# Altium integrated library Silicon Labs Clocks and Oscillators.IntLib: 678 symbols (part 20 of 45)
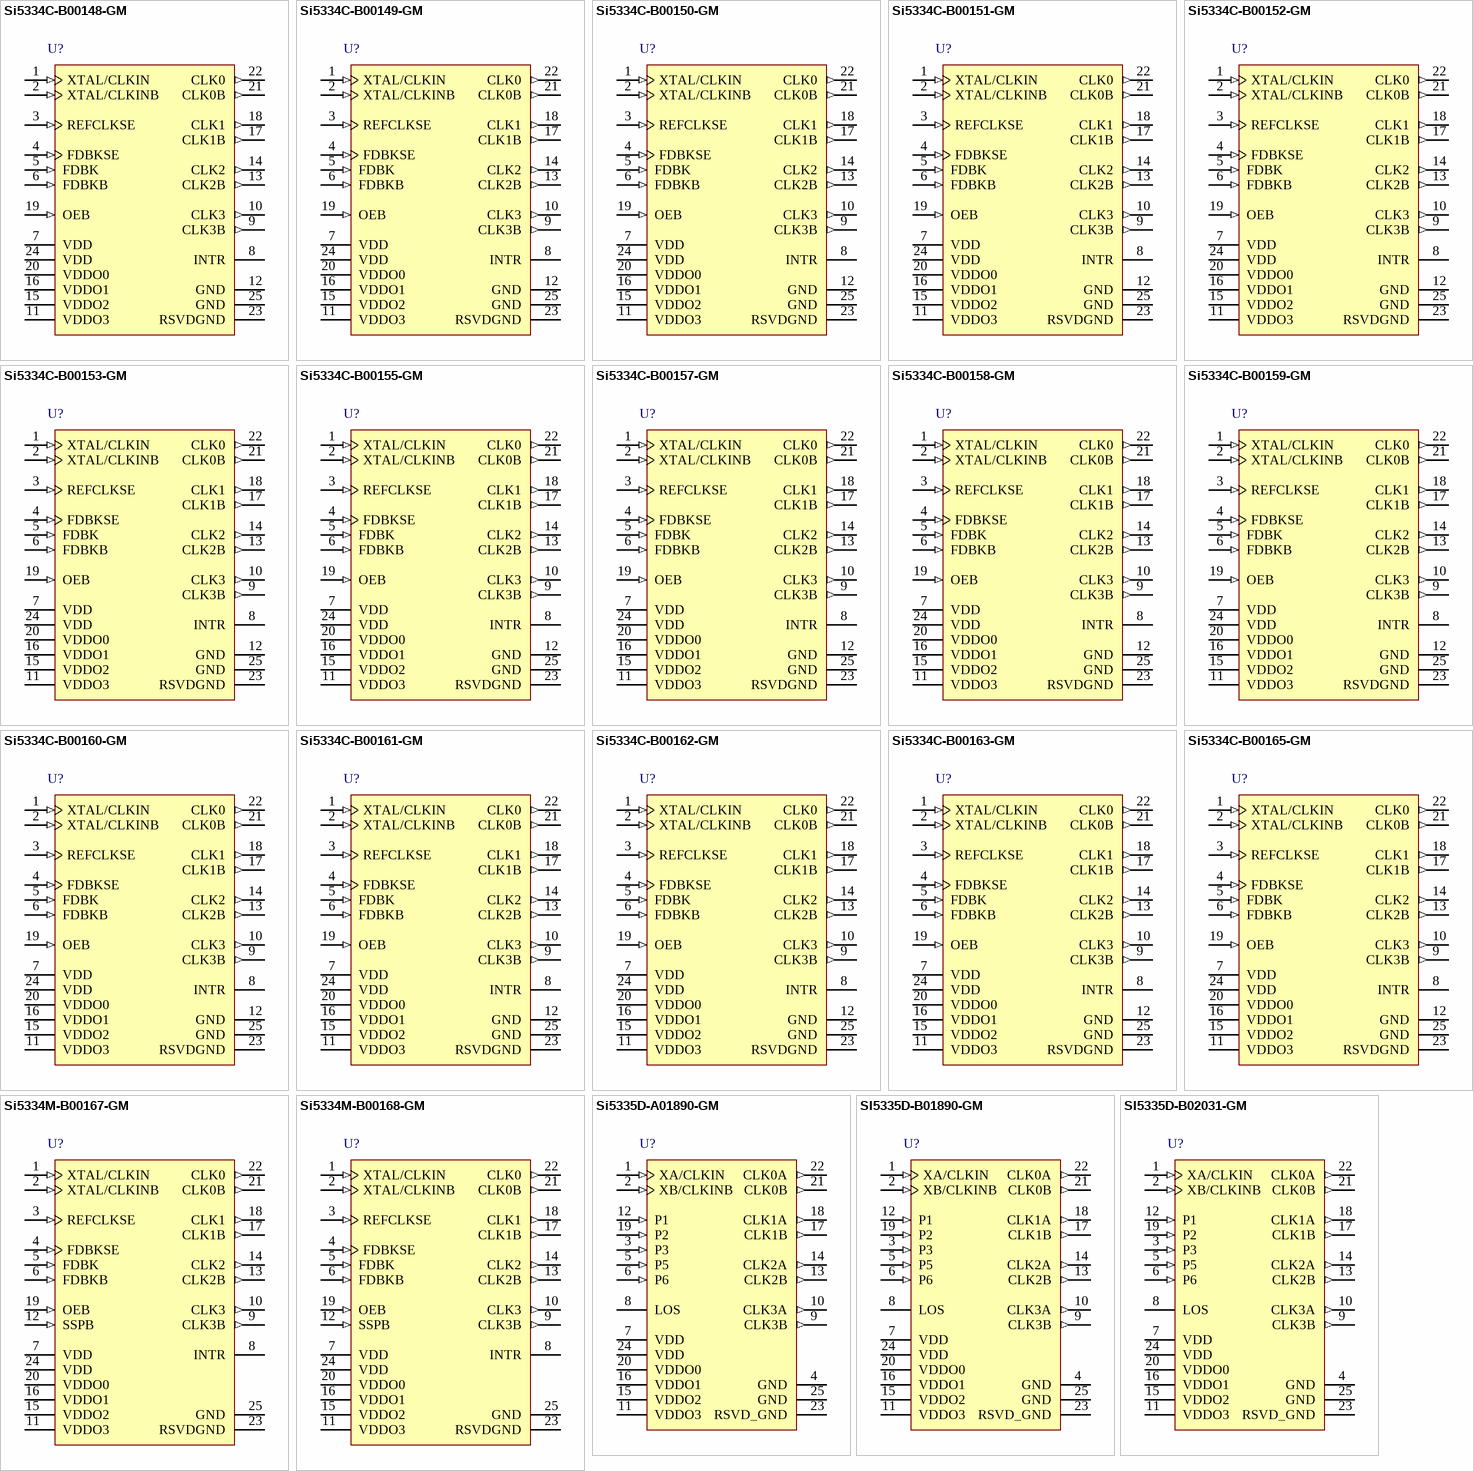
[diagram p63: symbols Si5334C-B00148-GM to SI5335D-B02031-GM]

## Si5334C-B00151-GM
designator U?
Pin-Controlled Any-Frequency, Any-Output Quad Clock Generator, 1.8 / 2.5 / 3.3 V, 0.16 to 200 MHz Output, -40 to 85 degC, 24-pin QFN; Manufacturer: Silicon Labs; PartNumber: Si5334C-B00151-GM; Output Format: LVPECL; LVDS; LVCMOS; HCSL; SSTL; HSTL; Reference Inputs: 1; VDD: 1.8 V; 2.5 V; 3.3 V; Sub-Family: Clock Generators; DatasheetVersion: Rev. 1.1; PackageReference: QFN-24; PackageDescription: 24-Pin Quad-Flat No-Leads Package, Body 4 x 4 mm, Pitch 0.5 mm; Output Frequency (MHz): 0.16 to 200; Mounting Technology: Surface Mount; Code_JEDEC: MO-220; Code_IPC: J-STD-020; ComponentLink1Description: Manufacturer URL; ComponentLink1URL: http://www.silabs.com/; ComponentLink2Description: Datasheet; ComponentLink2URL: http://www.silabs.com/Support%20Documents/TechnicalDocs/Si5334.pdf; ComponentLink3Description: Package Specification; ComponentLink3URL: http://www.silabs.com/Support%20Documents/TechnicalDocs/Si5330.pdf
footprint SLAB-QFN-24-2500x2500TP_N (QFN, 24-Leads, Body 4x4mm, Pitch 0.5mm, Thermal Pad 2.5x2.5mm, IPC Medium Density)
footprint SLAB-QFN-24-2500x2500TP_L (QFN, 24-Leads, Body 4x4mm, Pitch 0.5mm, Thermal Pad 2.5x2.5mm, IPC High Density)
footprint SLAB-QFN-24-2500x2500TP_M (QFN, 24-Leads, Body 4x4mm, Pitch 0.5mm, Thermal Pad 2.5x2.5mm, IPC Low Density)
pins: 1 XTAL/CLKIN (in) "These pins are used as the main differential clock input or as the XTAL input.", 2 XTAL/CLKINB (in) "These pins are used as the main differential clock input or as the XTAL input.", 3 REFCLKSE (in) "High impedance input for single-ended clock signals such as CMOS. The input should be dc-coupled.", 4 FDBKSE (in) "High Impedance input for single-ended clock signals, such as CMOS, when the zero delay mode of operation is required. This input should be dc-coupled.", 5 FDBK (in) "These pins form a differential input for feedback clock signals when a zero delay mode of operation is in effect. Always AC couple into these pins. When not is use leave FDBK unconnected and connect FDBKB to ground.", 6 FDBKB (in) "These pins form a differential input for feedback clock signals when a zero delay mode of operation is in effect. Always AC couple into these pins. When not is use leave FDBK unconnected and connect FDBKB to ground.", 7 VDD (power) "Core Supply Voltage", 8 INTR (oc), 9 CLK3B (out) "Output Clock B for Channel 3", 10 CLK3 (out), 11 VDDO3 (power) "Output Clock Supply Voltage", 12 GND (power) "Ground.", 13 CLK2B (out) "Output Clock B for Channel 2", 14 CLK2 (out), 15 VDDO2 (power) "Output Clock Supply Voltage.", 16 VDDO1 (power) "Output Clock Supply Voltage.", 17 CLK1B (out) "Output Clock B for Channel 1", 18 CLK1 (out), 19 OEB (in) "Output Enable Low", 20 VDDO0 (power) "Output Clock Supply Voltage.", 21 CLK0B (out) "Output Clock B for Channel 0", 22 CLK0 (out), 23 RSVDGND (power) "Ground.", 24 VDD (power) "Core Supply Voltage.", 25 GND (power) "Ground Pad."

## Si5334C-B00152-GM
designator U?
Pin-Controlled Any-Frequency, Any-Output Quad Clock Generator, 1.8 / 2.5 / 3.3 V, 0.16 to 200 MHz Output, -40 to 85 degC, 24-pin QFN; Manufacturer: Silicon Labs; PartNumber: Si5334C-B00152-GM; Output Format: LVPECL; LVDS; LVCMOS; HCSL; SSTL; HSTL; Reference Inputs: 1; VDD: 1.8 V; 2.5 V; 3.3 V; Sub-Family: Clock Generators; DatasheetVersion: Rev. 1.1; PackageReference: QFN-24; PackageDescription: 24-Pin Quad-Flat No-Leads Package, Body 4 x 4 mm, Pitch 0.5 mm; Output Frequency (MHz): 0.16 to 200; Mounting Technology: Surface Mount; Code_JEDEC: MO-220; Code_IPC: J-STD-020; ComponentLink1Description: Manufacturer URL; ComponentLink1URL: http://www.silabs.com/; ComponentLink2Description: Datasheet; ComponentLink2URL: http://www.silabs.com/Support%20Documents/TechnicalDocs/Si5334.pdf; ComponentLink3Description: Package Specification; ComponentLink3URL: http://www.silabs.com/Support%20Documents/TechnicalDocs/Si5330.pdf
footprint SLAB-QFN-24-2500x2500TP_N (QFN, 24-Leads, Body 4x4mm, Pitch 0.5mm, Thermal Pad 2.5x2.5mm, IPC Medium Density)
footprint SLAB-QFN-24-2500x2500TP_L (QFN, 24-Leads, Body 4x4mm, Pitch 0.5mm, Thermal Pad 2.5x2.5mm, IPC High Density)
footprint SLAB-QFN-24-2500x2500TP_M (QFN, 24-Leads, Body 4x4mm, Pitch 0.5mm, Thermal Pad 2.5x2.5mm, IPC Low Density)
pins: 1 XTAL/CLKIN (in) "These pins are used as the main differential clock input or as the XTAL input.", 2 XTAL/CLKINB (in) "These pins are used as the main differential clock input or as the XTAL input.", 3 REFCLKSE (in) "High impedance input for single-ended clock signals such as CMOS. The input should be dc-coupled.", 4 FDBKSE (in) "High Impedance input for single-ended clock signals, such as CMOS, when the zero delay mode of operation is required. This input should be dc-coupled.", 5 FDBK (in) "These pins form a differential input for feedback clock signals when a zero delay mode of operation is in effect. Always AC couple into these pins. When not is use leave FDBK unconnected and connect FDBKB to ground.", 6 FDBKB (in) "These pins form a differential input for feedback clock signals when a zero delay mode of operation is in effect. Always AC couple into these pins. When not is use leave FDBK unconnected and connect FDBKB to ground.", 7 VDD (power) "Core Supply Voltage", 8 INTR (oc), 9 CLK3B (out) "Output Clock B for Channel 3", 10 CLK3 (out), 11 VDDO3 (power) "Output Clock Supply Voltage", 12 GND (power) "Ground.", 13 CLK2B (out) "Output Clock B for Channel 2", 14 CLK2 (out), 15 VDDO2 (power) "Output Clock Supply Voltage.", 16 VDDO1 (power) "Output Clock Supply Voltage.", 17 CLK1B (out) "Output Clock B for Channel 1", 18 CLK1 (out), 19 OEB (in) "Output Enable Low", 20 VDDO0 (power) "Output Clock Supply Voltage.", 21 CLK0B (out) "Output Clock B for Channel 0", 22 CLK0 (out), 23 RSVDGND (power) "Ground.", 24 VDD (power) "Core Supply Voltage.", 25 GND (power) "Ground Pad."

## Si5334C-B00153-GM
designator U?
Pin-Controlled Any-Frequency, Any-Output Quad Clock Generator, 1.8 / 2.5 / 3.3 V, 0.16 to 200 MHz Output, -40 to 85 degC, 24-pin QFN; Manufacturer: Silicon Labs; PartNumber: Si5334C-B00153-GM; Output Format: LVPECL; LVDS; LVCMOS; HCSL; SSTL; HSTL; Reference Inputs: 1; VDD: 1.8 V; 2.5 V; 3.3 V; Sub-Family: Clock Generators; DatasheetVersion: Rev. 1.1; PackageReference: QFN-24; PackageDescription: 24-Pin Quad-Flat No-Leads Package, Body 4 x 4 mm, Pitch 0.5 mm; Output Frequency (MHz): 0.16 to 200; Mounting Technology: Surface Mount; Code_JEDEC: MO-220; Code_IPC: J-STD-020; ComponentLink1Description: Manufacturer URL; ComponentLink1URL: http://www.silabs.com/; ComponentLink2Description: Datasheet; ComponentLink2URL: http://www.silabs.com/Support%20Documents/TechnicalDocs/Si5334.pdf; ComponentLink3Description: Package Specification; ComponentLink3URL: http://www.silabs.com/Support%20Documents/TechnicalDocs/Si5330.pdf
footprint SLAB-QFN-24-2500x2500TP_N (QFN, 24-Leads, Body 4x4mm, Pitch 0.5mm, Thermal Pad 2.5x2.5mm, IPC Medium Density)
footprint SLAB-QFN-24-2500x2500TP_L (QFN, 24-Leads, Body 4x4mm, Pitch 0.5mm, Thermal Pad 2.5x2.5mm, IPC High Density)
footprint SLAB-QFN-24-2500x2500TP_M (QFN, 24-Leads, Body 4x4mm, Pitch 0.5mm, Thermal Pad 2.5x2.5mm, IPC Low Density)
pins: 1 XTAL/CLKIN (in) "These pins are used as the main differential clock input or as the XTAL input.", 2 XTAL/CLKINB (in) "These pins are used as the main differential clock input or as the XTAL input.", 3 REFCLKSE (in) "High impedance input for single-ended clock signals such as CMOS. The input should be dc-coupled.", 4 FDBKSE (in) "High Impedance input for single-ended clock signals, such as CMOS, when the zero delay mode of operation is required. This input should be dc-coupled.", 5 FDBK (in) "These pins form a differential input for feedback clock signals when a zero delay mode of operation is in effect. Always AC couple into these pins. When not is use leave FDBK unconnected and connect FDBKB to ground.", 6 FDBKB (in) "These pins form a differential input for feedback clock signals when a zero delay mode of operation is in effect. Always AC couple into these pins. When not is use leave FDBK unconnected and connect FDBKB to ground.", 7 VDD (power) "Core Supply Voltage", 8 INTR (oc), 9 CLK3B (out) "Output Clock B for Channel 3", 10 CLK3 (out), 11 VDDO3 (power) "Output Clock Supply Voltage", 12 GND (power) "Ground.", 13 CLK2B (out) "Output Clock B for Channel 2", 14 CLK2 (out), 15 VDDO2 (power) "Output Clock Supply Voltage.", 16 VDDO1 (power) "Output Clock Supply Voltage.", 17 CLK1B (out) "Output Clock B for Channel 1", 18 CLK1 (out), 19 OEB (in) "Output Enable Low", 20 VDDO0 (power) "Output Clock Supply Voltage.", 21 CLK0B (out) "Output Clock B for Channel 0", 22 CLK0 (out), 23 RSVDGND (power) "Ground.", 24 VDD (power) "Core Supply Voltage.", 25 GND (power) "Ground Pad."

## Si5334C-B00155-GM
designator U?
Pin-Controlled Any-Frequency, Any-Output Quad Clock Generator, 1.8 / 2.5 / 3.3 V, 0.16 to 200 MHz Output, -40 to 85 degC, 24-pin QFN; Manufacturer: Silicon Labs; PartNumber: Si5334C-B00155-GM; Output Format: LVPECL; LVDS; LVCMOS; HCSL; SSTL; HSTL; Reference Inputs: 1; VDD: 1.8 V; 2.5 V; 3.3 V; Sub-Family: Clock Generators; DatasheetVersion: Rev. 1.1; PackageReference: QFN-24; PackageDescription: 24-Pin Quad-Flat No-Leads Package, Body 4 x 4 mm, Pitch 0.5 mm; Output Frequency (MHz): 0.16 to 200; Mounting Technology: Surface Mount; Code_JEDEC: MO-220; Code_IPC: J-STD-020; ComponentLink1Description: Manufacturer URL; ComponentLink1URL: http://www.silabs.com/; ComponentLink2Description: Datasheet; ComponentLink2URL: http://www.silabs.com/Support%20Documents/TechnicalDocs/Si5334.pdf; ComponentLink3Description: Package Specification; ComponentLink3URL: http://www.silabs.com/Support%20Documents/TechnicalDocs/Si5330.pdf
footprint SLAB-QFN-24-2500x2500TP_N (QFN, 24-Leads, Body 4x4mm, Pitch 0.5mm, Thermal Pad 2.5x2.5mm, IPC Medium Density)
footprint SLAB-QFN-24-2500x2500TP_L (QFN, 24-Leads, Body 4x4mm, Pitch 0.5mm, Thermal Pad 2.5x2.5mm, IPC High Density)
footprint SLAB-QFN-24-2500x2500TP_M (QFN, 24-Leads, Body 4x4mm, Pitch 0.5mm, Thermal Pad 2.5x2.5mm, IPC Low Density)
pins: 1 XTAL/CLKIN (in) "These pins are used as the main differential clock input or as the XTAL input.", 2 XTAL/CLKINB (in) "These pins are used as the main differential clock input or as the XTAL input.", 3 REFCLKSE (in) "High impedance input for single-ended clock signals such as CMOS. The input should be dc-coupled.", 4 FDBKSE (in) "High Impedance input for single-ended clock signals, such as CMOS, when the zero delay mode of operation is required. This input should be dc-coupled.", 5 FDBK (in) "These pins form a differential input for feedback clock signals when a zero delay mode of operation is in effect. Always AC couple into these pins. When not is use leave FDBK unconnected and connect FDBKB to ground.", 6 FDBKB (in) "These pins form a differential input for feedback clock signals when a zero delay mode of operation is in effect. Always AC couple into these pins. When not is use leave FDBK unconnected and connect FDBKB to ground.", 7 VDD (power) "Core Supply Voltage", 8 INTR (oc), 9 CLK3B (out) "Output Clock B for Channel 3", 10 CLK3 (out), 11 VDDO3 (power) "Output Clock Supply Voltage", 12 GND (power) "Ground.", 13 CLK2B (out) "Output Clock B for Channel 2", 14 CLK2 (out), 15 VDDO2 (power) "Output Clock Supply Voltage.", 16 VDDO1 (power) "Output Clock Supply Voltage.", 17 CLK1B (out) "Output Clock B for Channel 1", 18 CLK1 (out), 19 OEB (in) "Output Enable Low", 20 VDDO0 (power) "Output Clock Supply Voltage.", 21 CLK0B (out) "Output Clock B for Channel 0", 22 CLK0 (out), 23 RSVDGND (power) "Ground.", 24 VDD (power) "Core Supply Voltage.", 25 GND (power) "Ground Pad."

## Si5334C-B00157-GM
designator U?
Pin-Controlled Any-Frequency, Any-Output Quad Clock Generator, 1.8 / 2.5 / 3.3 V, 0.16 to 200 MHz Output, -40 to 85 degC, 24-pin QFN; Manufacturer: Silicon Labs; PartNumber: Si5334C-B00157-GM; Output Format: LVPECL; LVDS; LVCMOS; HCSL; SSTL; HSTL; Reference Inputs: 1; VDD: 1.8 V; 2.5 V; 3.3 V; Sub-Family: Clock Generators; DatasheetVersion: Rev. 1.1; PackageReference: QFN-24; PackageDescription: 24-Pin Quad-Flat No-Leads Package, Body 4 x 4 mm, Pitch 0.5 mm; Output Frequency (MHz): 0.16 to 200; Mounting Technology: Surface Mount; Code_JEDEC: MO-220; Code_IPC: J-STD-020; ComponentLink1Description: Manufacturer URL; ComponentLink1URL: http://www.silabs.com/; ComponentLink2Description: Datasheet; ComponentLink2URL: http://www.silabs.com/Support%20Documents/TechnicalDocs/Si5334.pdf; ComponentLink3Description: Package Specification; ComponentLink3URL: http://www.silabs.com/Support%20Documents/TechnicalDocs/Si5330.pdf
footprint SLAB-QFN-24-2500x2500TP_N (QFN, 24-Leads, Body 4x4mm, Pitch 0.5mm, Thermal Pad 2.5x2.5mm, IPC Medium Density)
footprint SLAB-QFN-24-2500x2500TP_L (QFN, 24-Leads, Body 4x4mm, Pitch 0.5mm, Thermal Pad 2.5x2.5mm, IPC High Density)
footprint SLAB-QFN-24-2500x2500TP_M (QFN, 24-Leads, Body 4x4mm, Pitch 0.5mm, Thermal Pad 2.5x2.5mm, IPC Low Density)
pins: 1 XTAL/CLKIN (in) "These pins are used as the main differential clock input or as the XTAL input.", 2 XTAL/CLKINB (in) "These pins are used as the main differential clock input or as the XTAL input.", 3 REFCLKSE (in) "High impedance input for single-ended clock signals such as CMOS. The input should be dc-coupled.", 4 FDBKSE (in) "High Impedance input for single-ended clock signals, such as CMOS, when the zero delay mode of operation is required. This input should be dc-coupled.", 5 FDBK (in) "These pins form a differential input for feedback clock signals when a zero delay mode of operation is in effect. Always AC couple into these pins. When not is use leave FDBK unconnected and connect FDBKB to ground.", 6 FDBKB (in) "These pins form a differential input for feedback clock signals when a zero delay mode of operation is in effect. Always AC couple into these pins. When not is use leave FDBK unconnected and connect FDBKB to ground.", 7 VDD (power) "Core Supply Voltage", 8 INTR (oc), 9 CLK3B (out) "Output Clock B for Channel 3", 10 CLK3 (out), 11 VDDO3 (power) "Output Clock Supply Voltage", 12 GND (power) "Ground.", 13 CLK2B (out) "Output Clock B for Channel 2", 14 CLK2 (out), 15 VDDO2 (power) "Output Clock Supply Voltage.", 16 VDDO1 (power) "Output Clock Supply Voltage.", 17 CLK1B (out) "Output Clock B for Channel 1", 18 CLK1 (out), 19 OEB (in) "Output Enable Low", 20 VDDO0 (power) "Output Clock Supply Voltage.", 21 CLK0B (out) "Output Clock B for Channel 0", 22 CLK0 (out), 23 RSVDGND (power) "Ground.", 24 VDD (power) "Core Supply Voltage.", 25 GND (power) "Ground Pad."

## Si5334C-B00158-GM
designator U?
Pin-Controlled Any-Frequency, Any-Output Quad Clock Generator, 1.8 / 2.5 / 3.3 V, 0.16 to 200 MHz Output, -40 to 85 degC, 24-pin QFN; Manufacturer: Silicon Labs; PartNumber: Si5334C-B00158-GM; Output Format: LVPECL; LVDS; LVCMOS; HCSL; SSTL; HSTL; Reference Inputs: 1; VDD: 1.8 V; 2.5 V; 3.3 V; Sub-Family: Clock Generators; DatasheetVersion: Rev. 1.1; PackageReference: QFN-24; PackageDescription: 24-Pin Quad-Flat No-Leads Package, Body 4 x 4 mm, Pitch 0.5 mm; Output Frequency (MHz): 0.16 to 200; Mounting Technology: Surface Mount; Code_JEDEC: MO-220; Code_IPC: J-STD-020; ComponentLink1Description: Manufacturer URL; ComponentLink1URL: http://www.silabs.com/; ComponentLink2Description: Datasheet; ComponentLink2URL: http://www.silabs.com/Support%20Documents/TechnicalDocs/Si5334.pdf; ComponentLink3Description: Package Specification; ComponentLink3URL: http://www.silabs.com/Support%20Documents/TechnicalDocs/Si5330.pdf
footprint SLAB-QFN-24-2500x2500TP_N (QFN, 24-Leads, Body 4x4mm, Pitch 0.5mm, Thermal Pad 2.5x2.5mm, IPC Medium Density)
footprint SLAB-QFN-24-2500x2500TP_L (QFN, 24-Leads, Body 4x4mm, Pitch 0.5mm, Thermal Pad 2.5x2.5mm, IPC High Density)
footprint SLAB-QFN-24-2500x2500TP_M (QFN, 24-Leads, Body 4x4mm, Pitch 0.5mm, Thermal Pad 2.5x2.5mm, IPC Low Density)
pins: 1 XTAL/CLKIN (in) "These pins are used as the main differential clock input or as the XTAL input.", 2 XTAL/CLKINB (in) "These pins are used as the main differential clock input or as the XTAL input.", 3 REFCLKSE (in) "High impedance input for single-ended clock signals such as CMOS. The input should be dc-coupled.", 4 FDBKSE (in) "High Impedance input for single-ended clock signals, such as CMOS, when the zero delay mode of operation is required. This input should be dc-coupled.", 5 FDBK (in) "These pins form a differential input for feedback clock signals when a zero delay mode of operation is in effect. Always AC couple into these pins. When not is use leave FDBK unconnected and connect FDBKB to ground.", 6 FDBKB (in) "These pins form a differential input for feedback clock signals when a zero delay mode of operation is in effect. Always AC couple into these pins. When not is use leave FDBK unconnected and connect FDBKB to ground.", 7 VDD (power) "Core Supply Voltage", 8 INTR (oc), 9 CLK3B (out) "Output Clock B for Channel 3", 10 CLK3 (out), 11 VDDO3 (power) "Output Clock Supply Voltage", 12 GND (power) "Ground.", 13 CLK2B (out) "Output Clock B for Channel 2", 14 CLK2 (out), 15 VDDO2 (power) "Output Clock Supply Voltage.", 16 VDDO1 (power) "Output Clock Supply Voltage.", 17 CLK1B (out) "Output Clock B for Channel 1", 18 CLK1 (out), 19 OEB (in) "Output Enable Low", 20 VDDO0 (power) "Output Clock Supply Voltage.", 21 CLK0B (out) "Output Clock B for Channel 0", 22 CLK0 (out), 23 RSVDGND (power) "Ground.", 24 VDD (power) "Core Supply Voltage.", 25 GND (power) "Ground Pad."

## Si5334C-B00159-GM
designator U?
Pin-Controlled Any-Frequency, Any-Output Quad Clock Generator, 1.8 / 2.5 / 3.3 V, 0.16 to 200 MHz Output, -40 to 85 degC, 24-pin QFN; Manufacturer: Silicon Labs; PartNumber: Si5334C-B00159-GM; Output Format: LVPECL; LVDS; LVCMOS; HCSL; SSTL; HSTL; Reference Inputs: 1; VDD: 1.8 V; 2.5 V; 3.3 V; Sub-Family: Clock Generators; DatasheetVersion: Rev. 1.1; PackageReference: QFN-24; PackageDescription: 24-Pin Quad-Flat No-Leads Package, Body 4 x 4 mm, Pitch 0.5 mm; Output Frequency (MHz): 0.16 to 200; Mounting Technology: Surface Mount; Code_JEDEC: MO-220; Code_IPC: J-STD-020; ComponentLink1Description: Manufacturer URL; ComponentLink1URL: http://www.silabs.com/; ComponentLink2Description: Datasheet; ComponentLink2URL: http://www.silabs.com/Support%20Documents/TechnicalDocs/Si5334.pdf; ComponentLink3Description: Package Specification; ComponentLink3URL: http://www.silabs.com/Support%20Documents/TechnicalDocs/Si5330.pdf
footprint SLAB-QFN-24-2500x2500TP_N (QFN, 24-Leads, Body 4x4mm, Pitch 0.5mm, Thermal Pad 2.5x2.5mm, IPC Medium Density)
footprint SLAB-QFN-24-2500x2500TP_L (QFN, 24-Leads, Body 4x4mm, Pitch 0.5mm, Thermal Pad 2.5x2.5mm, IPC High Density)
footprint SLAB-QFN-24-2500x2500TP_M (QFN, 24-Leads, Body 4x4mm, Pitch 0.5mm, Thermal Pad 2.5x2.5mm, IPC Low Density)
pins: 1 XTAL/CLKIN (in) "These pins are used as the main differential clock input or as the XTAL input.", 2 XTAL/CLKINB (in) "These pins are used as the main differential clock input or as the XTAL input.", 3 REFCLKSE (in) "High impedance input for single-ended clock signals such as CMOS. The input should be dc-coupled.", 4 FDBKSE (in) "High Impedance input for single-ended clock signals, such as CMOS, when the zero delay mode of operation is required. This input should be dc-coupled.", 5 FDBK (in) "These pins form a differential input for feedback clock signals when a zero delay mode of operation is in effect. Always AC couple into these pins. When not is use leave FDBK unconnected and connect FDBKB to ground.", 6 FDBKB (in) "These pins form a differential input for feedback clock signals when a zero delay mode of operation is in effect. Always AC couple into these pins. When not is use leave FDBK unconnected and connect FDBKB to ground.", 7 VDD (power) "Core Supply Voltage", 8 INTR (oc), 9 CLK3B (out) "Output Clock B for Channel 3", 10 CLK3 (out), 11 VDDO3 (power) "Output Clock Supply Voltage", 12 GND (power) "Ground.", 13 CLK2B (out) "Output Clock B for Channel 2", 14 CLK2 (out), 15 VDDO2 (power) "Output Clock Supply Voltage.", 16 VDDO1 (power) "Output Clock Supply Voltage.", 17 CLK1B (out) "Output Clock B for Channel 1", 18 CLK1 (out), 19 OEB (in) "Output Enable Low", 20 VDDO0 (power) "Output Clock Supply Voltage.", 21 CLK0B (out) "Output Clock B for Channel 0", 22 CLK0 (out), 23 RSVDGND (power) "Ground.", 24 VDD (power) "Core Supply Voltage.", 25 GND (power) "Ground Pad."

## Si5334C-B00160-GM
designator U?
Pin-Controlled Any-Frequency, Any-Output Quad Clock Generator, 1.8 / 2.5 / 3.3 V, 0.16 to 200 MHz Output, -40 to 85 degC, 24-pin QFN; Manufacturer: Silicon Labs; PartNumber: Si5334C-B00160-GM; Output Format: LVPECL; LVDS; LVCMOS; HCSL; SSTL; HSTL; Reference Inputs: 1; VDD: 1.8 V; 2.5 V; 3.3 V; Sub-Family: Clock Generators; DatasheetVersion: Rev. 1.1; PackageReference: QFN-24; PackageDescription: 24-Pin Quad-Flat No-Leads Package, Body 4 x 4 mm, Pitch 0.5 mm; Output Frequency (MHz): 0.16 to 200; Mounting Technology: Surface Mount; Code_JEDEC: MO-220; Code_IPC: J-STD-020; ComponentLink1Description: Manufacturer URL; ComponentLink1URL: http://www.silabs.com/; ComponentLink2Description: Datasheet; ComponentLink2URL: http://www.silabs.com/Support%20Documents/TechnicalDocs/Si5334.pdf; ComponentLink3Description: Package Specification; ComponentLink3URL: http://www.silabs.com/Support%20Documents/TechnicalDocs/Si5330.pdf
footprint SLAB-QFN-24-2500x2500TP_N (QFN, 24-Leads, Body 4x4mm, Pitch 0.5mm, Thermal Pad 2.5x2.5mm, IPC Medium Density)
footprint SLAB-QFN-24-2500x2500TP_L (QFN, 24-Leads, Body 4x4mm, Pitch 0.5mm, Thermal Pad 2.5x2.5mm, IPC High Density)
footprint SLAB-QFN-24-2500x2500TP_M (QFN, 24-Leads, Body 4x4mm, Pitch 0.5mm, Thermal Pad 2.5x2.5mm, IPC Low Density)
pins: 1 XTAL/CLKIN (in) "These pins are used as the main differential clock input or as the XTAL input.", 2 XTAL/CLKINB (in) "These pins are used as the main differential clock input or as the XTAL input.", 3 REFCLKSE (in) "High impedance input for single-ended clock signals such as CMOS. The input should be dc-coupled.", 4 FDBKSE (in) "High Impedance input for single-ended clock signals, such as CMOS, when the zero delay mode of operation is required. This input should be dc-coupled.", 5 FDBK (in) "These pins form a differential input for feedback clock signals when a zero delay mode of operation is in effect. Always AC couple into these pins. When not is use leave FDBK unconnected and connect FDBKB to ground.", 6 FDBKB (in) "These pins form a differential input for feedback clock signals when a zero delay mode of operation is in effect. Always AC couple into these pins. When not is use leave FDBK unconnected and connect FDBKB to ground.", 7 VDD (power) "Core Supply Voltage", 8 INTR (oc), 9 CLK3B (out) "Output Clock B for Channel 3", 10 CLK3 (out), 11 VDDO3 (power) "Output Clock Supply Voltage", 12 GND (power) "Ground.", 13 CLK2B (out) "Output Clock B for Channel 2", 14 CLK2 (out), 15 VDDO2 (power) "Output Clock Supply Voltage.", 16 VDDO1 (power) "Output Clock Supply Voltage.", 17 CLK1B (out) "Output Clock B for Channel 1", 18 CLK1 (out), 19 OEB (in) "Output Enable Low", 20 VDDO0 (power) "Output Clock Supply Voltage.", 21 CLK0B (out) "Output Clock B for Channel 0", 22 CLK0 (out), 23 RSVDGND (power) "Ground.", 24 VDD (power) "Core Supply Voltage.", 25 GND (power) "Ground Pad."

## Si5334C-B00161-GM
designator U?
Pin-Controlled Any-Frequency, Any-Output Quad Clock Generator, 1.8 / 2.5 / 3.3 V, 0.16 to 200 MHz Output, -40 to 85 degC, 24-pin QFN; Manufacturer: Silicon Labs; PartNumber: Si5334C-B00161-GM; Output Format: LVPECL; LVDS; LVCMOS; HCSL; SSTL; HSTL; Reference Inputs: 1; VDD: 1.8 V; 2.5 V; 3.3 V; Sub-Family: Clock Generators; DatasheetVersion: Rev. 1.1; PackageReference: QFN-24; PackageDescription: 24-Pin Quad-Flat No-Leads Package, Body 4 x 4 mm, Pitch 0.5 mm; Output Frequency (MHz): 0.16 to 200; Mounting Technology: Surface Mount; Code_JEDEC: MO-220; Code_IPC: J-STD-020; ComponentLink1Description: Manufacturer URL; ComponentLink1URL: http://www.silabs.com/; ComponentLink2Description: Datasheet; ComponentLink2URL: http://www.silabs.com/Support%20Documents/TechnicalDocs/Si5334.pdf; ComponentLink3Description: Package Specification; ComponentLink3URL: http://www.silabs.com/Support%20Documents/TechnicalDocs/Si5330.pdf
footprint SLAB-QFN-24-2500x2500TP_N (QFN, 24-Leads, Body 4x4mm, Pitch 0.5mm, Thermal Pad 2.5x2.5mm, IPC Medium Density)
footprint SLAB-QFN-24-2500x2500TP_L (QFN, 24-Leads, Body 4x4mm, Pitch 0.5mm, Thermal Pad 2.5x2.5mm, IPC High Density)
footprint SLAB-QFN-24-2500x2500TP_M (QFN, 24-Leads, Body 4x4mm, Pitch 0.5mm, Thermal Pad 2.5x2.5mm, IPC Low Density)
pins: 1 XTAL/CLKIN (in) "These pins are used as the main differential clock input or as the XTAL input.", 2 XTAL/CLKINB (in) "These pins are used as the main differential clock input or as the XTAL input.", 3 REFCLKSE (in) "High impedance input for single-ended clock signals such as CMOS. The input should be dc-coupled.", 4 FDBKSE (in) "High Impedance input for single-ended clock signals, such as CMOS, when the zero delay mode of operation is required. This input should be dc-coupled.", 5 FDBK (in) "These pins form a differential input for feedback clock signals when a zero delay mode of operation is in effect. Always AC couple into these pins. When not is use leave FDBK unconnected and connect FDBKB to ground.", 6 FDBKB (in) "These pins form a differential input for feedback clock signals when a zero delay mode of operation is in effect. Always AC couple into these pins. When not is use leave FDBK unconnected and connect FDBKB to ground.", 7 VDD (power) "Core Supply Voltage", 8 INTR (oc), 9 CLK3B (out) "Output Clock B for Channel 3", 10 CLK3 (out), 11 VDDO3 (power) "Output Clock Supply Voltage", 12 GND (power) "Ground.", 13 CLK2B (out) "Output Clock B for Channel 2", 14 CLK2 (out), 15 VDDO2 (power) "Output Clock Supply Voltage.", 16 VDDO1 (power) "Output Clock Supply Voltage.", 17 CLK1B (out) "Output Clock B for Channel 1", 18 CLK1 (out), 19 OEB (in) "Output Enable Low", 20 VDDO0 (power) "Output Clock Supply Voltage.", 21 CLK0B (out) "Output Clock B for Channel 0", 22 CLK0 (out), 23 RSVDGND (power) "Ground.", 24 VDD (power) "Core Supply Voltage.", 25 GND (power) "Ground Pad."

## Si5334C-B00162-GM
designator U?
Pin-Controlled Any-Frequency, Any-Output Quad Clock Generator, 1.8 / 2.5 / 3.3 V, 0.16 to 200 MHz Output, -40 to 85 degC, 24-pin QFN; Manufacturer: Silicon Labs; PartNumber: Si5334C-B00162-GM; Output Format: LVPECL; LVDS; LVCMOS; HCSL; SSTL; HSTL; Reference Inputs: 1; VDD: 1.8 V; 2.5 V; 3.3 V; Sub-Family: Clock Generators; DatasheetVersion: Rev. 1.1; PackageReference: QFN-24; PackageDescription: 24-Pin Quad-Flat No-Leads Package, Body 4 x 4 mm, Pitch 0.5 mm; Output Frequency (MHz): 0.16 to 200; Mounting Technology: Surface Mount; Code_JEDEC: MO-220; Code_IPC: J-STD-020; ComponentLink1Description: Manufacturer URL; ComponentLink1URL: http://www.silabs.com/; ComponentLink2Description: Datasheet; ComponentLink2URL: http://www.silabs.com/Support%20Documents/TechnicalDocs/Si5334.pdf; ComponentLink3Description: Package Specification; ComponentLink3URL: http://www.silabs.com/Support%20Documents/TechnicalDocs/Si5330.pdf
footprint SLAB-QFN-24-2500x2500TP_N (QFN, 24-Leads, Body 4x4mm, Pitch 0.5mm, Thermal Pad 2.5x2.5mm, IPC Medium Density)
footprint SLAB-QFN-24-2500x2500TP_L (QFN, 24-Leads, Body 4x4mm, Pitch 0.5mm, Thermal Pad 2.5x2.5mm, IPC High Density)
footprint SLAB-QFN-24-2500x2500TP_M (QFN, 24-Leads, Body 4x4mm, Pitch 0.5mm, Thermal Pad 2.5x2.5mm, IPC Low Density)
pins: 1 XTAL/CLKIN (in) "These pins are used as the main differential clock input or as the XTAL input.", 2 XTAL/CLKINB (in) "These pins are used as the main differential clock input or as the XTAL input.", 3 REFCLKSE (in) "High impedance input for single-ended clock signals such as CMOS. The input should be dc-coupled.", 4 FDBKSE (in) "High Impedance input for single-ended clock signals, such as CMOS, when the zero delay mode of operation is required. This input should be dc-coupled.", 5 FDBK (in) "These pins form a differential input for feedback clock signals when a zero delay mode of operation is in effect. Always AC couple into these pins. When not is use leave FDBK unconnected and connect FDBKB to ground.", 6 FDBKB (in) "These pins form a differential input for feedback clock signals when a zero delay mode of operation is in effect. Always AC couple into these pins. When not is use leave FDBK unconnected and connect FDBKB to ground.", 7 VDD (power) "Core Supply Voltage", 8 INTR (oc), 9 CLK3B (out) "Output Clock B for Channel 3", 10 CLK3 (out), 11 VDDO3 (power) "Output Clock Supply Voltage", 12 GND (power) "Ground.", 13 CLK2B (out) "Output Clock B for Channel 2", 14 CLK2 (out), 15 VDDO2 (power) "Output Clock Supply Voltage.", 16 VDDO1 (power) "Output Clock Supply Voltage.", 17 CLK1B (out) "Output Clock B for Channel 1", 18 CLK1 (out), 19 OEB (in) "Output Enable Low", 20 VDDO0 (power) "Output Clock Supply Voltage.", 21 CLK0B (out) "Output Clock B for Channel 0", 22 CLK0 (out), 23 RSVDGND (power) "Ground.", 24 VDD (power) "Core Supply Voltage.", 25 GND (power) "Ground Pad."

## Si5334C-B00163-GM
designator U?
Pin-Controlled Any-Frequency, Any-Output Quad Clock Generator, 1.8 / 2.5 / 3.3 V, 0.16 to 200 MHz Output, -40 to 85 degC, 24-pin QFN; Manufacturer: Silicon Labs; PartNumber: Si5334C-B00163-GM; Output Format: LVPECL; LVDS; LVCMOS; HCSL; SSTL; HSTL; Reference Inputs: 1; VDD: 1.8 V; 2.5 V; 3.3 V; Sub-Family: Clock Generators; DatasheetVersion: Rev. 1.1; PackageReference: QFN-24; PackageDescription: 24-Pin Quad-Flat No-Leads Package, Body 4 x 4 mm, Pitch 0.5 mm; Output Frequency (MHz): 0.16 to 200; Mounting Technology: Surface Mount; Code_JEDEC: MO-220; Code_IPC: J-STD-020; ComponentLink1Description: Manufacturer URL; ComponentLink1URL: http://www.silabs.com/; ComponentLink2Description: Datasheet; ComponentLink2URL: http://www.silabs.com/Support%20Documents/TechnicalDocs/Si5334.pdf; ComponentLink3Description: Package Specification; ComponentLink3URL: http://www.silabs.com/Support%20Documents/TechnicalDocs/Si5330.pdf
footprint SLAB-QFN-24-2500x2500TP_N (QFN, 24-Leads, Body 4x4mm, Pitch 0.5mm, Thermal Pad 2.5x2.5mm, IPC Medium Density)
footprint SLAB-QFN-24-2500x2500TP_L (QFN, 24-Leads, Body 4x4mm, Pitch 0.5mm, Thermal Pad 2.5x2.5mm, IPC High Density)
footprint SLAB-QFN-24-2500x2500TP_M (QFN, 24-Leads, Body 4x4mm, Pitch 0.5mm, Thermal Pad 2.5x2.5mm, IPC Low Density)
pins: 1 XTAL/CLKIN (in) "These pins are used as the main differential clock input or as the XTAL input.", 2 XTAL/CLKINB (in) "These pins are used as the main differential clock input or as the XTAL input.", 3 REFCLKSE (in) "High impedance input for single-ended clock signals such as CMOS. The input should be dc-coupled.", 4 FDBKSE (in) "High Impedance input for single-ended clock signals, such as CMOS, when the zero delay mode of operation is required. This input should be dc-coupled.", 5 FDBK (in) "These pins form a differential input for feedback clock signals when a zero delay mode of operation is in effect. Always AC couple into these pins. When not is use leave FDBK unconnected and connect FDBKB to ground.", 6 FDBKB (in) "These pins form a differential input for feedback clock signals when a zero delay mode of operation is in effect. Always AC couple into these pins. When not is use leave FDBK unconnected and connect FDBKB to ground.", 7 VDD (power) "Core Supply Voltage", 8 INTR (oc), 9 CLK3B (out) "Output Clock B for Channel 3", 10 CLK3 (out), 11 VDDO3 (power) "Output Clock Supply Voltage", 12 GND (power) "Ground.", 13 CLK2B (out) "Output Clock B for Channel 2", 14 CLK2 (out), 15 VDDO2 (power) "Output Clock Supply Voltage.", 16 VDDO1 (power) "Output Clock Supply Voltage.", 17 CLK1B (out) "Output Clock B for Channel 1", 18 CLK1 (out), 19 OEB (in) "Output Enable Low", 20 VDDO0 (power) "Output Clock Supply Voltage.", 21 CLK0B (out) "Output Clock B for Channel 0", 22 CLK0 (out), 23 RSVDGND (power) "Ground.", 24 VDD (power) "Core Supply Voltage.", 25 GND (power) "Ground Pad."

## Si5334C-B00165-GM
designator U?
Pin-Controlled Any-Frequency, Any-Output Quad Clock Generator, 1.8 / 2.5 / 3.3 V, 0.16 to 200 MHz Output, -40 to 85 degC, 24-pin QFN; Manufacturer: Silicon Labs; PartNumber: Si5334C-B00165-GM; Output Format: LVPECL; LVDS; LVCMOS; HCSL; SSTL; HSTL; Reference Inputs: 1; VDD: 1.8 V; 2.5 V; 3.3 V; Sub-Family: Clock Generators; DatasheetVersion: Rev. 1.1; PackageReference: QFN-24; PackageDescription: 24-Pin Quad-Flat No-Leads Package, Body 4 x 4 mm, Pitch 0.5 mm; Output Frequency (MHz): 0.16 to 200; Mounting Technology: Surface Mount; Code_JEDEC: MO-220; Code_IPC: J-STD-020; ComponentLink1Description: Manufacturer URL; ComponentLink1URL: http://www.silabs.com/; ComponentLink2Description: Datasheet; ComponentLink2URL: http://www.silabs.com/Support%20Documents/TechnicalDocs/Si5334.pdf; ComponentLink3Description: Package Specification; ComponentLink3URL: http://www.silabs.com/Support%20Documents/TechnicalDocs/Si5330.pdf
footprint SLAB-QFN-24-2500x2500TP_N (QFN, 24-Leads, Body 4x4mm, Pitch 0.5mm, Thermal Pad 2.5x2.5mm, IPC Medium Density)
footprint SLAB-QFN-24-2500x2500TP_L (QFN, 24-Leads, Body 4x4mm, Pitch 0.5mm, Thermal Pad 2.5x2.5mm, IPC High Density)
footprint SLAB-QFN-24-2500x2500TP_M (QFN, 24-Leads, Body 4x4mm, Pitch 0.5mm, Thermal Pad 2.5x2.5mm, IPC Low Density)
pins: 1 XTAL/CLKIN (in) "These pins are used as the main differential clock input or as the XTAL input.", 2 XTAL/CLKINB (in) "These pins are used as the main differential clock input or as the XTAL input.", 3 REFCLKSE (in) "High impedance input for single-ended clock signals such as CMOS. The input should be dc-coupled.", 4 FDBKSE (in) "High Impedance input for single-ended clock signals, such as CMOS, when the zero delay mode of operation is required. This input should be dc-coupled.", 5 FDBK (in) "These pins form a differential input for feedback clock signals when a zero delay mode of operation is in effect. Always AC couple into these pins. When not is use leave FDBK unconnected and connect FDBKB to ground.", 6 FDBKB (in) "These pins form a differential input for feedback clock signals when a zero delay mode of operation is in effect. Always AC couple into these pins. When not is use leave FDBK unconnected and connect FDBKB to ground.", 7 VDD (power) "Core Supply Voltage", 8 INTR (oc), 9 CLK3B (out) "Output Clock B for Channel 3", 10 CLK3 (out), 11 VDDO3 (power) "Output Clock Supply Voltage", 12 GND (power) "Ground.", 13 CLK2B (out) "Output Clock B for Channel 2", 14 CLK2 (out), 15 VDDO2 (power) "Output Clock Supply Voltage.", 16 VDDO1 (power) "Output Clock Supply Voltage.", 17 CLK1B (out) "Output Clock B for Channel 1", 18 CLK1 (out), 19 OEB (in) "Output Enable Low", 20 VDDO0 (power) "Output Clock Supply Voltage.", 21 CLK0B (out) "Output Clock B for Channel 0", 22 CLK0 (out), 23 RSVDGND (power) "Ground.", 24 VDD (power) "Core Supply Voltage.", 25 GND (power) "Ground Pad."

## Si5334M-B00167-GM
designator U?
Pin-Controlled Any-Frequency, Any-Output Quad Clock Generator, 1.8 / 2.5 / 3.3 V, 0.16 to 200 MHz Output, -40 to 85 degC, 24-pin QFN; Manufacturer: Silicon Labs; PartNumber: Si5334M-B00167-GM; Output Format: LVPECL; LVDS; LVCMOS; HCSL; SSTL; HSTL; Reference Inputs: 1; VDD: 1.8 V; 2.5 V; 3.3 V; Sub-Family: Clock Generators; DatasheetVersion: Rev. 1.1; PackageReference: QFN-24; PackageDescription: 24-Pin Quad-Flat No-Leads Package, Body 4 x 4 mm, Pitch 0.5 mm; Output Frequency (MHz): 0.16 to 200; Mounting Technology: Surface Mount; Code_JEDEC: MO-220; Code_IPC: J-STD-020; ComponentLink1Description: Manufacturer URL; ComponentLink1URL: http://www.silabs.com/; ComponentLink2Description: Datasheet; ComponentLink2URL: http://www.silabs.com/Support%20Documents/TechnicalDocs/Si5334.pdf; ComponentLink3Description: Package Specification; ComponentLink3URL: http://www.silabs.com/Support%20Documents/TechnicalDocs/Si5330.pdf
footprint SLAB-QFN-24-2500x2500TP_N (QFN, 24-Leads, Body 4x4mm, Pitch 0.5mm, Thermal Pad 2.5x2.5mm, IPC Medium Density)
footprint SLAB-QFN-24-2500x2500TP_L (QFN, 24-Leads, Body 4x4mm, Pitch 0.5mm, Thermal Pad 2.5x2.5mm, IPC High Density)
footprint SLAB-QFN-24-2500x2500TP_M (QFN, 24-Leads, Body 4x4mm, Pitch 0.5mm, Thermal Pad 2.5x2.5mm, IPC Low Density)
pins: 1 XTAL/CLKIN (in) "CLKIN/CLKINB. These pins are used as the main differential clock input or as the XTAL input. Clock inputs to these pins must be ac-coupled. A crystal should be directly connected to pins 1,2 with the shortest traces possible.(See Datasheet)", 2 XTAL/CLKINB (in) "CLKIN/CLKINB. These pins are used as the main differential clock input or as the XTAL input. Clock inputs to these pins must be ac-coupled. A crystal should be directly connected to pins 1,2 with the shortest traces possible.(See Datasheet)", 3 REFCLKSE (in) "REFCLKSE. High impedance input for single-ended clock signals such as CMOS. The input should be dc-coupled.", 4 FDBKSE (in) "FDBKSE. High Impedance input for single-ended clock signals, such as CMOS, when the zero delay mode of operation is required. This input should be dc-coupled.", 5 FDBK (in) "FDBK/FDBKB. These pins form a differential input for feedback clock signals when a zero delay mode of operation is in effect. Always AC couple into these pins. When not is use leave FDBK unconnected and connect FDBKB to (See Datasheet)", 6 FDBKB (in) "FDBK/FDBKB. These pins form a differential input for feedback clock signals when a zero delay mode of operation is in effect. Always AC couple into these pins. When not is use leave FDBK unconnected and connect FDBKB to (See Datasheet)", 7 VDD (power) "Core Supply Voltage. The device operates from a 1.8, 2.5, or 3.3 V supply. A 0.1 uF bypass capacitor should be located very close to this pin.", 8 INTR (oc), 9 CLK3B (out) "Output Clock B for Channel 3. May be a single-ended output or half of a differential output with CLK3A being the other differential half. If unused leave this pin floating.", 10 CLK3 (out) "Output Clock A for Channel 3. May be a single-ended output or half of a differential output with CLK3B being the other differential half. If unused leave this pin floating.", 11 VDDO3 (power) "Output Clock Supply Voltage. Supply voltage (3.3, 2.5, 1.8, or 1.5 V) for CLK3A,B. A 0.1 uF capacitor must be located very close to this pin. If CLK3 is not used, this pin must be tied to VDD (pin 7, 24).", 12 SSPB (in) "SSPB. When low, Spread Spectrum is enabled on every output clock that is programmed for Spread Spectrum. This option is available on the Si5334K/L/M. On an Si5334 that does not contain the spread spectrum functionality, this (See Datasheet)", 13 CLK2B (out) "Output Clock B for Channel 2. May be a single-ended output or half of a differential output with CLK2A being the other differential half. If unused leave this pin floating.", 14 CLK2 (out) "Output Clock A for Channel 2. May be a single-ended output or half of a differential output with CLK2B being the other differential half. If unused leave this pin floating.", 15 VDDO2 (power) "Output Clock Supply Voltage. Supply voltage (3.3, 2.5, 1.8, or 1.5 V) for CLK2A,B. A 0.1 uF capacitor must be located very close to this pin. If CLK2 is not used, this pin must be tied to VDD (pin 7, 24).", 16 VDDO1 (power) "Output Clock Supply Voltage. Supply voltage (3.3, 2.5, 1.8, or 1.5 V) for CLK1A,B. A 0.1 uF capacitor must be located very close to this pin. If CLK1 is not used, this pin must be tied to VDD (pin 7, 24).", 17 CLK1B (out) "Output Clock B for Channel 1. May be a single-ended output or half of a differential output with CLK1A being the other differential half. If unused, this pin must be tied to VDD pin 24. If unused leave this pin floating.", 18 CLK1 (out) "Output Clock A for Channel 1. May be a single-ended output or half of a differential output with CLK1B being the other differential half. If unused leave this pin floating.", 19 OEB (in) "Output Enable Low When low, all the factory-programmed outputs are enabled. When high all factory programmed outputs are forced to a logic low.", 20 VDDO0 (power) "Output Clock Supply Voltage. Supply voltage (3.3, 2.5, 1.8, or 1.5 V) for CLK0A,B. A 0.1 uF capacitor must be located very close to this pin. If CLK0 is not used, this pin must be tied to VDD (pin 7, 24).", 21 CLK0B (out) "Output Clock B for Channel 0. May be a single-ended output or half of a differential output with CLK0A being the other differential half. If unused leave this pin floating.", 22 CLK0 (out) "Output Clock A for Channel 0. May be a single-ended output or half of a differential output with CLK0B being the other differential half. If unused leave this pin floating.", 23 RSVDGND (power) "Ground. Must be connected to system ground.", 24 VDD (power) "Core Supply Voltage. The device operates from a 1.8, 2.5, or 3.3 V supply. A 0.1 uF bypass capacitor should be located very close to this pin.", 25 GND (power) "Ground Pad. This is the large pad in the center of the package. Device specifications cannot be guaranteed unless the ground pad is properly connected to a ground plane on the PCB. See section 6.0 for the PCB pad sizes and (See Datasheet)"

## Si5334M-B00168-GM
designator U?
Pin-Controlled Any-Frequency, Any-Output Quad Clock Generator, 1.8 / 2.5 / 3.3 V, 0.16 to 200 MHz Output, -40 to 85 degC, 24-pin QFN; Manufacturer: Silicon Labs; PartNumber: Si5334M-B00168-GM; Output Format: LVPECL; LVDS; LVCMOS; HCSL; SSTL; HSTL; Reference Inputs: 1; VDD: 1.8 V; 2.5 V; 3.3 V; Sub-Family: Clock Generators; DatasheetVersion: Rev. 1.1; PackageReference: QFN-24; PackageDescription: 24-Pin Quad-Flat No-Leads Package, Body 4 x 4 mm, Pitch 0.5 mm; Output Frequency (MHz): 0.16 to 200; Mounting Technology: Surface Mount; Code_JEDEC: MO-220; Code_IPC: J-STD-020; ComponentLink1Description: Manufacturer URL; ComponentLink1URL: http://www.silabs.com/; ComponentLink2Description: Datasheet; ComponentLink2URL: http://www.silabs.com/Support%20Documents/TechnicalDocs/Si5334.pdf; ComponentLink3Description: Package Specification; ComponentLink3URL: http://www.silabs.com/Support%20Documents/TechnicalDocs/Si5330.pdf
footprint SLAB-QFN-24-2500x2500TP_N (QFN, 24-Leads, Body 4x4mm, Pitch 0.5mm, Thermal Pad 2.5x2.5mm, IPC Medium Density)
footprint SLAB-QFN-24-2500x2500TP_L (QFN, 24-Leads, Body 4x4mm, Pitch 0.5mm, Thermal Pad 2.5x2.5mm, IPC High Density)
footprint SLAB-QFN-24-2500x2500TP_M (QFN, 24-Leads, Body 4x4mm, Pitch 0.5mm, Thermal Pad 2.5x2.5mm, IPC Low Density)
pins: 1 XTAL/CLKIN (in) "CLKIN/CLKINB. These pins are used as the main differential clock input or as the XTAL input. Clock inputs to these pins must be ac-coupled. A crystal should be directly connected to pins 1,2 with the shortest traces possible.(See Datasheet)", 2 XTAL/CLKINB (in) "CLKIN/CLKINB. These pins are used as the main differential clock input or as the XTAL input. Clock inputs to these pins must be ac-coupled. A crystal should be directly connected to pins 1,2 with the shortest traces possible.(See Datasheet)", 3 REFCLKSE (in) "REFCLKSE. High impedance input for single-ended clock signals such as CMOS. The input should be dc-coupled.", 4 FDBKSE (in) "FDBKSE. High Impedance input for single-ended clock signals, such as CMOS, when the zero delay mode of operation is required. This input should be dc-coupled.", 5 FDBK (in) "FDBK/FDBKB. These pins form a differential input for feedback clock signals when a zero delay mode of operation is in effect. Always AC couple into these pins. When not is use leave FDBK unconnected and connect FDBKB to (See Datasheet)", 6 FDBKB (in) "FDBK/FDBKB. These pins form a differential input for feedback clock signals when a zero delay mode of operation is in effect. Always AC couple into these pins. When not is use leave FDBK unconnected and connect FDBKB to (See Datasheet)", 7 VDD (power) "Core Supply Voltage. The device operates from a 1.8, 2.5, or 3.3 V supply. A 0.1 uF bypass capacitor should be located very close to this pin.", 8 INTR (oc), 9 CLK3B (out) "Output Clock B for Channel 3. May be a single-ended output or half of a differential output with CLK3A being the other differential half. If unused leave this pin floating.", 10 CLK3 (out) "Output Clock A for Channel 3. May be a single-ended output or half of a differential output with CLK3B being the other differential half. If unused leave this pin floating.", 11 VDDO3 (power) "Output Clock Supply Voltage. Supply voltage (3.3, 2.5, 1.8, or 1.5 V) for CLK3A,B. A 0.1 uF capacitor must be located very close to this pin. If CLK3 is not used, this pin must be tied to VDD (pin 7, 24).", 12 SSPB (in) "SSPB. When low, Spread Spectrum is enabled on every output clock that is programmed for Spread Spectrum. This option is available on the Si5334K/L/M. On an Si5334 that does not contain the spread spectrum functionality, this (See Datasheet)", 13 CLK2B (out) "Output Clock B for Channel 2. May be a single-ended output or half of a differential output with CLK2A being the other differential half. If unused leave this pin floating.", 14 CLK2 (out) "Output Clock A for Channel 2. May be a single-ended output or half of a differential output with CLK2B being the other differential half. If unused leave this pin floating.", 15 VDDO2 (power) "Output Clock Supply Voltage. Supply voltage (3.3, 2.5, 1.8, or 1.5 V) for CLK2A,B. A 0.1 uF capacitor must be located very close to this pin. If CLK2 is not used, this pin must be tied to VDD (pin 7, 24).", 16 VDDO1 (power) "Output Clock Supply Voltage. Supply voltage (3.3, 2.5, 1.8, or 1.5 V) for CLK1A,B. A 0.1 uF capacitor must be located very close to this pin. If CLK1 is not used, this pin must be tied to VDD (pin 7, 24).", 17 CLK1B (out) "Output Clock B for Channel 1. May be a single-ended output or half of a differential output with CLK1A being the other differential half. If unused, this pin must be tied to VDD pin 24. If unused leave this pin floating.", 18 CLK1 (out) "Output Clock A for Channel 1. May be a single-ended output or half of a differential output with CLK1B being the other differential half. If unused leave this pin floating.", 19 OEB (in) "Output Enable Low When low, all the factory-programmed outputs are enabled. When high all factory programmed outputs are forced to a logic low.", 20 VDDO0 (power) "Output Clock Supply Voltage. Supply voltage (3.3, 2.5, 1.8, or 1.5 V) for CLK0A,B. A 0.1 uF capacitor must be located very close to this pin. If CLK0 is not used, this pin must be tied to VDD (pin 7, 24).", 21 CLK0B (out) "Output Clock B for Channel 0. May be a single-ended output or half of a differential output with CLK0A being the other differential half. If unused leave this pin floating.", 22 CLK0 (out) "Output Clock A for Channel 0. May be a single-ended output or half of a differential output with CLK0B being the other differential half. If unused leave this pin floating.", 23 RSVDGND (power) "Ground. Must be connected to system ground.", 24 VDD (power) "Core Supply Voltage. The device operates from a 1.8, 2.5, or 3.3 V supply. A 0.1 uF bypass capacitor should be located very close to this pin.", 25 GND (power) "Ground Pad. This is the large pad in the center of the package. Device specifications cannot be guaranteed unless the ground pad is properly connected to a ground plane on the PCB. See section 6.0 for the PCB pad sizes and (See Datasheet)"